# EAGLE library part TX-XXX-ES (library LINX)
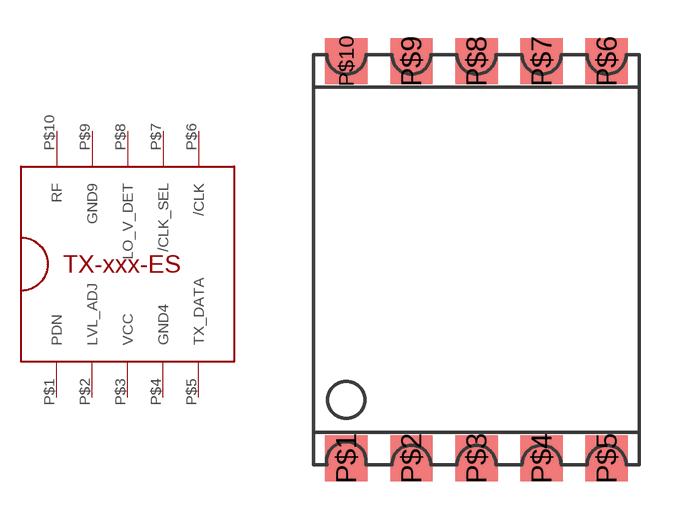
[diagram p0: symbol with the pads of TX-XXX-ES; footprint TX-XXX-ES]

Designator prefix -

## TX-XXX-ES  [TX-XXX-ES]
P$1  PDN
P$2  LVL_ADJ
P$3  VCC  pwr
P$4  GND4  pwr
P$5  TX_DATA
P$6  /CLK
P$7  /CLK_SEL
P$8  LO_V_DET
P$9  GND9  pwr
P$10  RF

## Footprint TX-XXX-ES (pad centres in mm)
smd 1.651 x 1.778: P$1 0,0; P$2 2.54,0; P$3 5.08,0; P$4 7.62,0; P$5 10.16,0; P$6 10.16,15.494; P$7 7.62,15.494; P$8 5.08,15.494; P$9 2.54,15.494; P$10 0,15.494